# Altium footprint library 20p_plastic_DIP.PcbLib: 1 footprints
Each footprint in its own frame and in the unit in brackets; x right, y up, seen from the top. Pads: shape width x height; smd on the part's side, far side on the other; paste and mask are expansions set on the pad; w line width, h text height; cw(c..) or ccw(c..) is an arc to the next point about the centre after c.
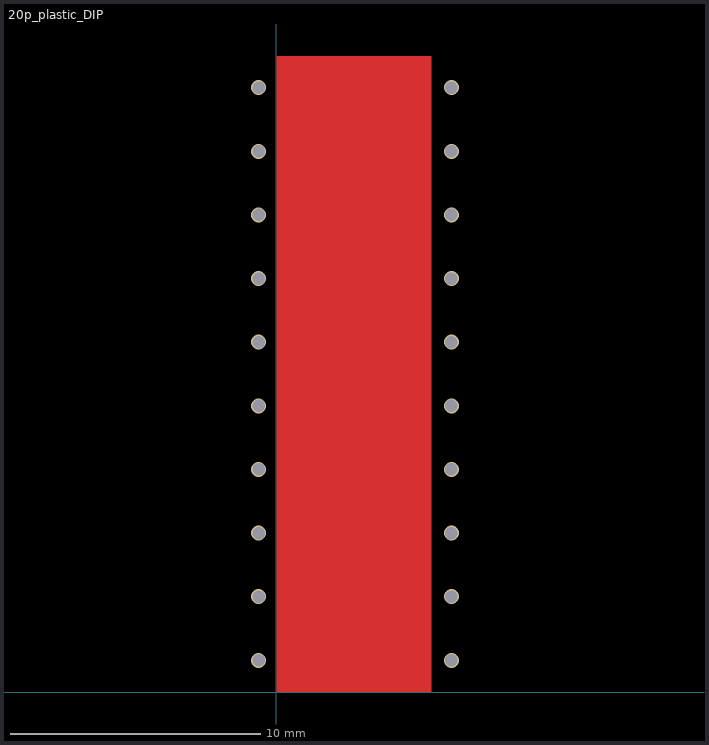
[diagram p0: the footprint, top view; thin cyan lines are the x and y axes]

## 20p_plastic_DIP [mm]
height 4.36
via 6.985,1.27 diameter 0.6 hole 0.5
via 6.985,1.27 diameter 0.6 hole 0.5
via 6.985,3.81 diameter 0.6 hole 0.5
via 6.985,6.35 diameter 0.6 hole 0.5
via 6.985,8.89 diameter 0.6 hole 0.5
via 6.985,11.43 diameter 0.6 hole 0.5
via 6.985,13.97 diameter 0.6 hole 0.5
via 6.985,16.51 diameter 0.6 hole 0.5
via 6.985,19.05 diameter 0.6 hole 0.5
via 6.985,21.59 diameter 0.6 hole 0.5
via 6.985,24.13 diameter 0.6 hole 0.5
via -0.71,1.27 diameter 0.6 hole 0.5
via -0.71,1.27 diameter 0.6 hole 0.5
via -0.71,3.81 diameter 0.6 hole 0.5
via -0.71,6.35 diameter 0.6 hole 0.5
via -0.71,8.89 diameter 0.6 hole 0.5
via -0.71,11.43 diameter 0.6 hole 0.5
via -0.71,13.97 diameter 0.6 hole 0.5
via -0.71,16.51 diameter 0.6 hole 0.5
via -0.71,19.05 diameter 0.6 hole 0.5
via -0.71,21.59 diameter 0.6 hole 0.5
via -0.71,24.13 diameter 0.6 hole 0.5
via -0.71,24.13 diameter 0.6 hole 0.5
via -0.71,21.59 diameter 0.6 hole 0.5
via -0.71,19.05 diameter 0.6 hole 0.5
via -0.71,16.51 diameter 0.6 hole 0.5
via -0.71,13.97 diameter 0.6 hole 0.5
via -0.71,11.43 diameter 0.6 hole 0.5
via -0.71,8.89 diameter 0.6 hole 0.5
via -0.71,6.35 diameter 0.6 hole 0.5
via -0.71,3.81 diameter 0.6 hole 0.5
via -0.71,1.27 diameter 0.6 hole 0.5
via -0.71,1.27 diameter 0.6 hole 0.5
Top Layer:
  rectangle: 0,0 6.198,25.4